# EAGLE library part ADXL335BCPZ-RL7 (library SamacSys_Parts)
Accelerometer IC Source: Datasheet <https://componentsearchengine.com/Datasheets/1/ADXL335BCPZ-RL7.pdf>
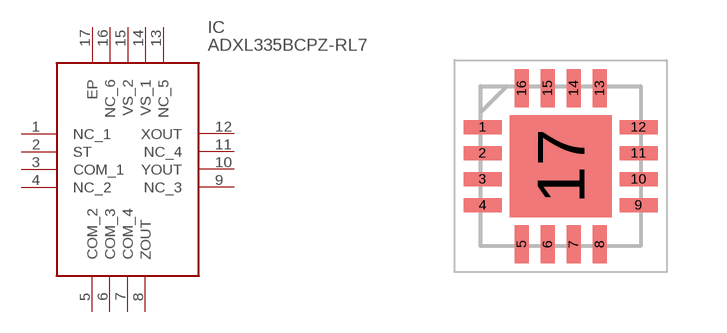
[diagram p6: symbol with the pads of QFN65P400X400X150-17N; footprint QFN65P400X400X150-17N]

Designator prefix IC

## ADXL335BCPZ-RL7 (DESCRIPTION: Accelerometer IC; HEIGHT: 1.5mm; MANUFACTURER_NAME: Analog Devices; MANUFACTURER_PART_NUMBER: ADXL335BCPZ-RL7; MOUSER_PART_NUMBER: 584-ADXL335BCPZ-R7; MOUSER_PRICE-STOCK: https://www.mouser.com/Search/Refine.aspx?Keyword=584-ADXL335BCPZ-R7)  [QFN65P400X400X150-17N]
1  NC_1
2  ST
3  COM_1
4  NC_2
5  COM_2
6  COM_3
7  COM_4
8  ZOUT
9  NC_3
10  YOUT
11  NC_4
12  XOUT
13  NC_5
14  VS_1
15  VS_2
16  NC_6
17  EP

## Footprint QFN65P400X400X150-17N (pad centres in mm)
16-Lead LFCSP_L-1
smd 0.95 x 0.35: 1 -1.95,0.975; 2 -1.95,0.325; 3 -1.95,-0.325; 4 -1.95,-0.975; 9 1.95,-0.975; 10 1.95,-0.325; 11 1.95,0.325; 12 1.95,0.975
smd 0.35 x 0.95: 5 -0.975,-1.95; 6 -0.325,-1.95; 7 0.325,-1.95; 8 0.975,-1.95; 13 0.975,1.95; 14 0.325,1.95; 15 -0.325,1.95; 16 -0.975,1.95
smd 2.55 x 2.55: 17 0,0